# Altium integrated library Linear Technology Power Management Switching Regulator LTC1174-LTC3901.IntLib: 2647 symbols (part 233 of 364)
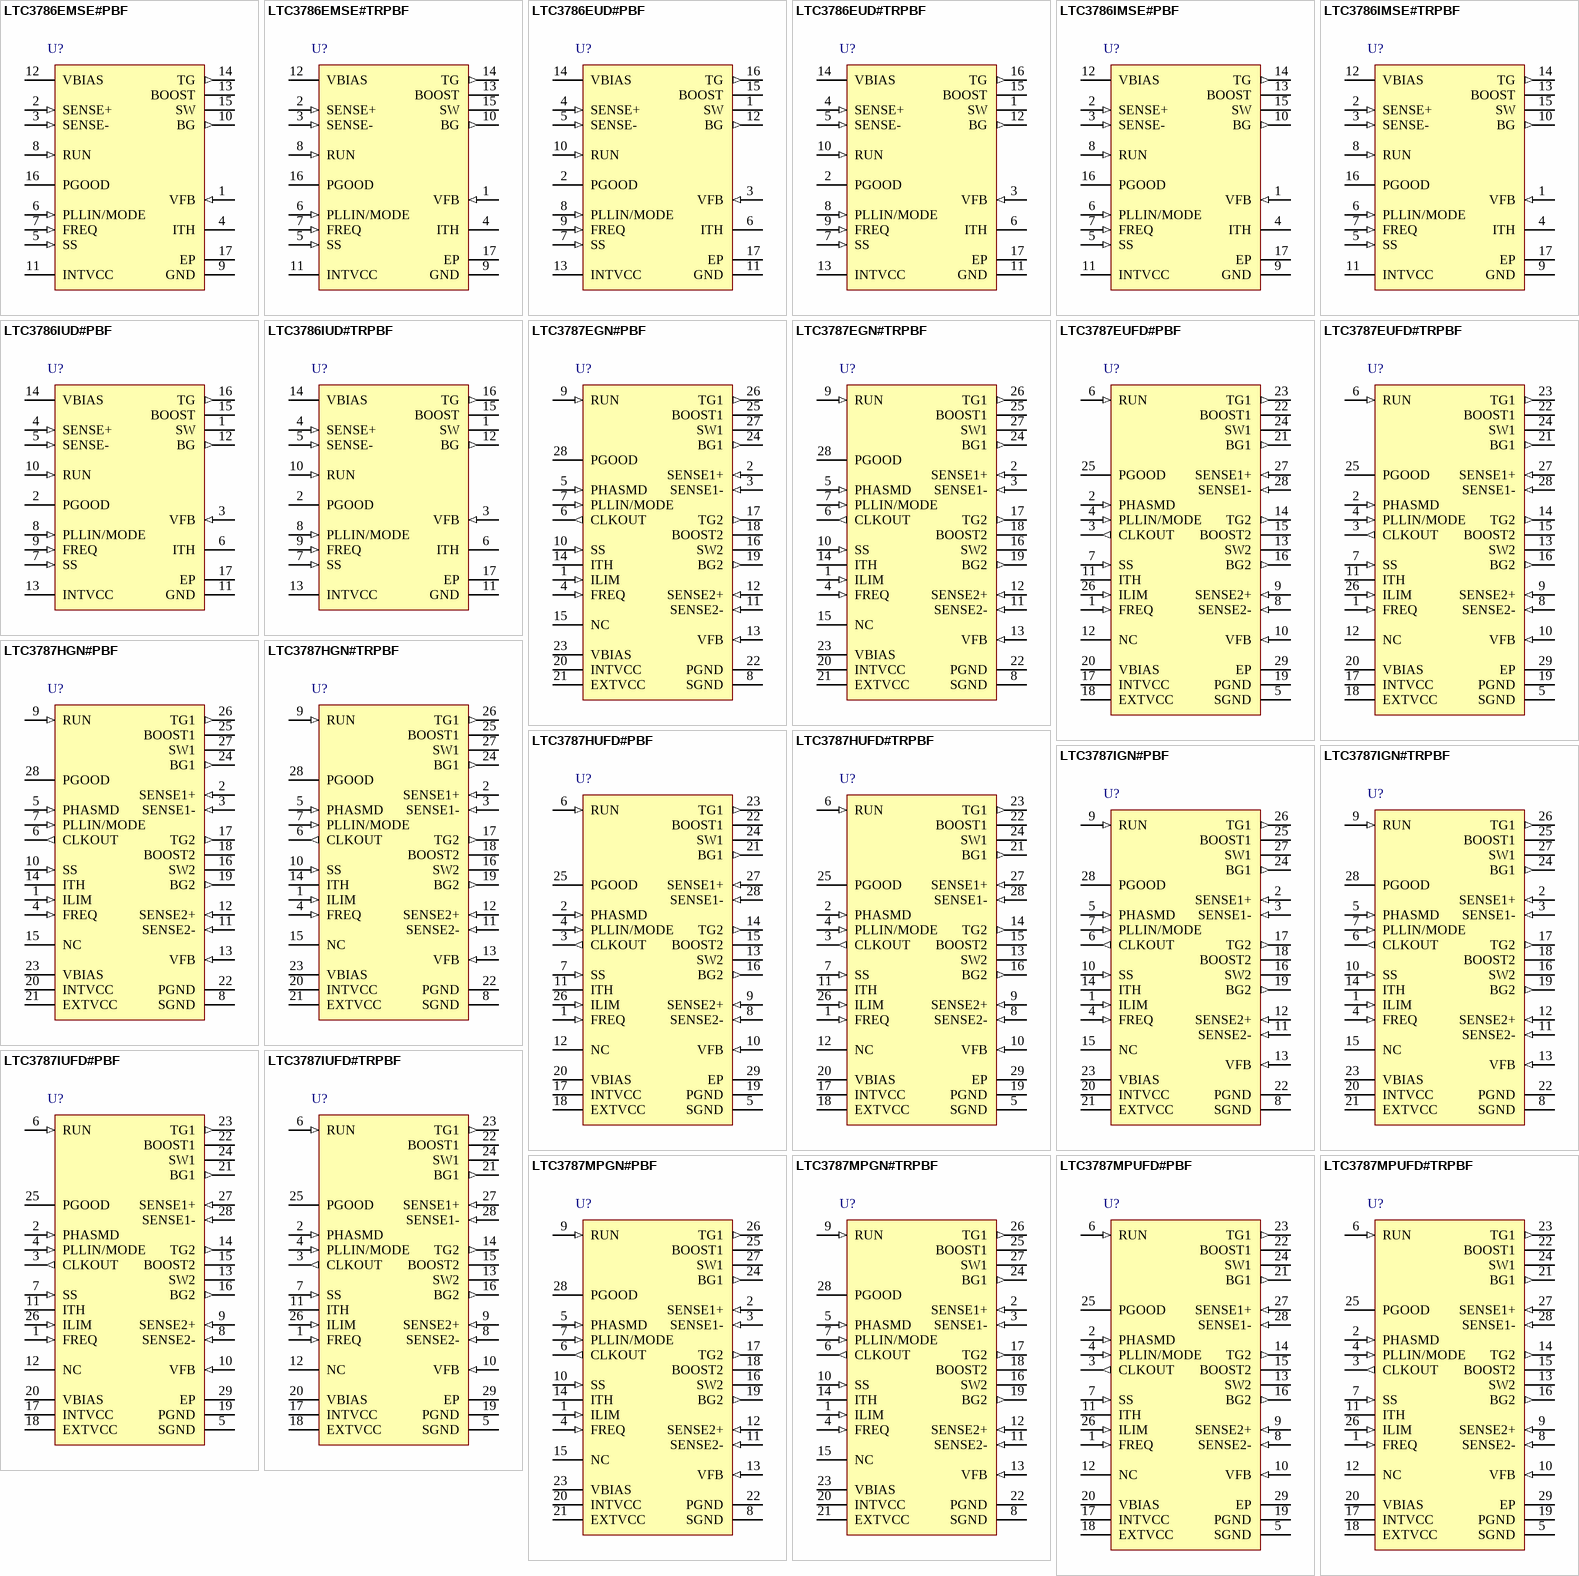
[diagram p335: symbols LTC3786EMSE#PBF to LTC3787MPUFD#TRPBF]

## LTC3786EUD#PBF
designator U?
Sync Boost Controller, Low 55 uA IQ, 16-pin QFN (UD-16), -40 to 125 degC, Pb-Free; Manufacturer: Linear Technology; PartNumber: LTC3786EUD#PBF; Frequency Sync Range: 75kHz - 850kHz; Number of Outputs: 1; DatasheetVersion: Rev. A; PackageVersion: Jun-10; PackageReference: UD-16; PackageDescription: 16-Pin Plastic QFN, Body 3 x 3 mm, Pitch 0.5 mm; Supplier 1: Digi-Key; Supplier Part Number 1: LTC3786EUD#PBF-ND; Supplier 2: Farnell; Supplier Part Number 2: 2295141; Supplier 3: Newark; Supplier Part Number 3: 13T3895; RoHS: TRUE; Mounting Technology: Surface Mount; Code_JEDEC: MO-220; ComponentLink1Description: Manufacturer URL; ComponentLink1URL: http://www.linear.com/; ComponentLink2Description: Datasheet; ComponentLink2URL: http://cds.linear.com/docs/en/datasheet/3786fa.pdf; ComponentLink3Description: Package Specification; ComponentLink3URL: http://cds.linear.com/docs/en/packaging/QFN_16_05-08-1691.pdf
footprint LT-UD-16_N (QFN, 16-Leads, Body 3x3mm, Pitch 0.5mm, Thermal Pad 1.45x1.45mm, IPC Medium Density)
footprint LT-UD-16_L (QFN, 16-Leads, Body 3x3mm, Pitch 0.5mm, Thermal Pad 1.45x1.45mm, IPC High Density)
footprint LT-UD-16_M (QFN, 16-Leads, Body 3x3mm, Pitch 0.5mm, Thermal Pad 1.45x1.45mm, IPC Low Density)
pins: 1 SW "Switch Node. Connect to the source of the synchronous top MOSFET, the drain of the main bottom MOSFET, and the inductor", 2 PGOOD (oc) "Power Good Indicator. Open-drain logic output that is pulled to ground when the output voltage is more than +/-10 % away from the regulated output voltage. To avoid false trips the output voltage must be outside of the range (See Datasheet)", 3 VFB (in) "Error Amplifier Feedback Input. This pin receives the remotely sensed feedback voltage from an external resistive divider connected across the output", 4 SENSE+ (in) "Positive Current Sense Comparator Input. The (+) input to the current comparator is normally connected to the positive terminal of a current sense resistor. The current sense resistor is normally placed at the input of the (See Datasheet)", 5 SENSE- (in) "Negative Current Sense Comparator Input. The (-) input to the current comparator is normally connected to the negative terminal of a current sense resistor connected in series with the inductor. The common mode voltage range (See Datasheet)", 6 ITH "Current Control Threshold and Error Amplifier Compensation Point. The voltage on this pin sets the current trip threshold.", 7 SS (in) "Output Soft-Start Input. A capacitor to ground at this pin sets the ramp rate of the output voltage during start-up.", 8 PLLIN/MODE (in) "External Synchronization Input to Phase Detector and Forced Continuous Mode Input. When an external clock is applied to this pin, it will force the controller into forced continuous mode of operation and the phase-locked (See Datasheet)", 9 FREQ (in) "The Frequency Control Pin for the Internal VCO. Connecting the pin to GND forces the VCO to a fixed low frequency of 350kHz. Connecting the pin to INTVCC forces the VCO to a fixed high frequency of 535kHz. The frequency can (See Datasheet)", 10 RUN (in) "Run Control Input. Forcing this pin below 1.28V shuts down the controller. Forcing this pin below 0.7V shuts down the entire LTC3786, reducing quiescent current to approximately 8uA. An external resistor divider connected to (See Datasheet)", 11 GND (power) "Ground. Connects to the source of the bottom (main) N-channel MOSFET and the (-) terminal(s) of CIN and COUT . All small-signal components and compensation components should also connect to this ground. The exposed pad must (See Datasheet)", 12 BG (out) "Bottom Gate. Connect to the gate of the main N-channel MOSFET.", 13 INTVCC (power) "Output of Internal 5.4V LDO. Power supply for control circuits and gate drivers. Decouple this pin to GND with a minimum 4.7uF low ESR ceramic capacitor.", 14 VBIAS (power) "Main Supply Pin. It is normally tied to the input supply VIN or to the output of the boost converter. A bypass capacitor should be tied between this pin and the GND pin. The operating voltage range on this pin is 4.5V to 38V (See Datasheet)", 15 BOOST "Floating Power Supply for the Synchronous MOSFET. Bypass to SW with a capacitor and supply with a Schottky diode connected to INTVCC.", 16 TG (out) "Top Gate. Connect to the gate of the synchronous NMOS.", 17 EP (power) "The exposed pad must be soldered to the PCB for rated thermal performance."

## LTC3786EUD#TRPBF
designator U?
Sync Boost Controller, Low 55 uA IQ, 16-pin QFN (UD-16), -40 to 125 degC, Pb-Free, Tape and Reel; Manufacturer: Linear Technology; PartNumber: LTC3786EUD#TRPBF; Frequency Sync Range: 75kHz - 850kHz; Number of Outputs: 1; DatasheetVersion: Rev. A; PackageVersion: Jun-10; PackageReference: UD-16; PackageDescription: 16-Pin Plastic QFN, Body 3 x 3 mm, Pitch 0.5 mm; Supplier 1: Digi-Key; Supplier Part Number 1: LTC3786EUD#TRPBF-ND; Packing: Tape and Reel; RoHS: TRUE; Mounting Technology: Surface Mount; Code_JEDEC: MO-220; ComponentLink1Description: Manufacturer URL; ComponentLink1URL: http://www.linear.com/; ComponentLink2Description: Datasheet; ComponentLink2URL: http://cds.linear.com/docs/en/datasheet/3786fa.pdf; ComponentLink3Description: Package Specification; ComponentLink3URL: http://cds.linear.com/docs/en/packaging/QFN_16_05-08-1691.pdf
footprint LT-UD-16_N (QFN, 16-Leads, Body 3x3mm, Pitch 0.5mm, Thermal Pad 1.45x1.45mm, IPC Medium Density)
footprint LT-UD-16_L (QFN, 16-Leads, Body 3x3mm, Pitch 0.5mm, Thermal Pad 1.45x1.45mm, IPC High Density)
footprint LT-UD-16_M (QFN, 16-Leads, Body 3x3mm, Pitch 0.5mm, Thermal Pad 1.45x1.45mm, IPC Low Density)
pins: 1 SW "Switch Node. Connect to the source of the synchronous top MOSFET, the drain of the main bottom MOSFET, and the inductor", 2 PGOOD (oc) "Power Good Indicator. Open-drain logic output that is pulled to ground when the output voltage is more than +/-10 % away from the regulated output voltage. To avoid false trips the output voltage must be outside of the range (See Datasheet)", 3 VFB (in) "Error Amplifier Feedback Input. This pin receives the remotely sensed feedback voltage from an external resistive divider connected across the output", 4 SENSE+ (in) "Positive Current Sense Comparator Input. The (+) input to the current comparator is normally connected to the positive terminal of a current sense resistor. The current sense resistor is normally placed at the input of the (See Datasheet)", 5 SENSE- (in) "Negative Current Sense Comparator Input. The (-) input to the current comparator is normally connected to the negative terminal of a current sense resistor connected in series with the inductor. The common mode voltage range (See Datasheet)", 6 ITH "Current Control Threshold and Error Amplifier Compensation Point. The voltage on this pin sets the current trip threshold.", 7 SS (in) "Output Soft-Start Input. A capacitor to ground at this pin sets the ramp rate of the output voltage during start-up.", 8 PLLIN/MODE (in) "External Synchronization Input to Phase Detector and Forced Continuous Mode Input. When an external clock is applied to this pin, it will force the controller into forced continuous mode of operation and the phase-locked (See Datasheet)", 9 FREQ (in) "The Frequency Control Pin for the Internal VCO. Connecting the pin to GND forces the VCO to a fixed low frequency of 350kHz. Connecting the pin to INTVCC forces the VCO to a fixed high frequency of 535kHz. The frequency can (See Datasheet)", 10 RUN (in) "Run Control Input. Forcing this pin below 1.28V shuts down the controller. Forcing this pin below 0.7V shuts down the entire LTC3786, reducing quiescent current to approximately 8uA. An external resistor divider connected to (See Datasheet)", 11 GND (power) "Ground. Connects to the source of the bottom (main) N-channel MOSFET and the (-) terminal(s) of CIN and COUT . All small-signal components and compensation components should also connect to this ground. The exposed pad must (See Datasheet)", 12 BG (out) "Bottom Gate. Connect to the gate of the main N-channel MOSFET.", 13 INTVCC (power) "Output of Internal 5.4V LDO. Power supply for control circuits and gate drivers. Decouple this pin to GND with a minimum 4.7uF low ESR ceramic capacitor.", 14 VBIAS (power) "Main Supply Pin. It is normally tied to the input supply VIN or to the output of the boost converter. A bypass capacitor should be tied between this pin and the GND pin. The operating voltage range on this pin is 4.5V to 38V (See Datasheet)", 15 BOOST "Floating Power Supply for the Synchronous MOSFET. Bypass to SW with a capacitor and supply with a Schottky diode connected to INTVCC.", 16 TG (out) "Top Gate. Connect to the gate of the synchronous NMOS.", 17 EP (power) "The exposed pad must be soldered to the PCB for rated thermal performance."